# EAGLE library part XF2*-40? (library Custom_Cons)
EastRising http://www.buydisplay.com/default/40-pin-0-5mm-pitch-top-contact-zif-connector-fpc-connector
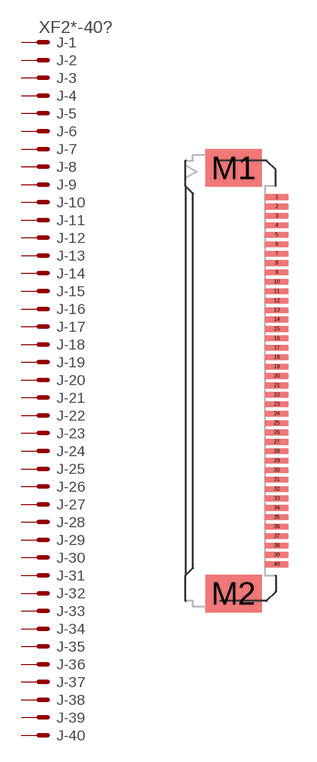
[diagram p0: symbol with the pads of XF2M-4015-1F; footprint XF2M-4015-1F]

Designator prefix J; gates -1=PV -2=P -3=P -4=P -5=P -6=P -7=P -8=P -9=P -10=P -11=P -12=P -13=P -14=P -15=P -16=P -17=P -18=P -19=P -20=P -21=P -22=P -23=P -24=P -25=P -26=P -27=P -28=P -29=P -30=P -31=P -32=P -33=P -34=P -35=P -36=P -37=P -38=P -39=P -40=P

## XF2M-40CON40HT (BEISTELLUNG: JA; MF: EastRising; MPN: ER-CON40HT-1; OC_FARNELL: unknown; OC_NEWARK: unknown)  [XF2M-4015-1F]
1  -40:MS  pas
2  -39:MS  pas
3  -38:MS  pas
4  -37:MS  pas
5  -36:MS  pas
6  -35:MS  pas
7  -34:MS  pas
8  -33:MS  pas
9  -32:MS  pas
10  -31:MS  pas
11  -30:MS  pas
12  -29:MS  pas
13  -28:MS  pas
14  -27:MS  pas
15  -26:MS  pas
16  -25:MS  pas
17  -24:MS  pas
18  -23:MS  pas
19  -22:MS  pas
20  -21:MS  pas
21  -20:MS  pas
22  -19:MS  pas
23  -18:MS  pas
24  -17:MS  pas
25  -16:MS  pas
26  -15:MS  pas
27  -14:MS  pas
28  -13:MS  pas
29  -12:MS  pas
30  -11:MS  pas
31  -10:MS  pas
32  -9:MS  pas
33  -8:MS  pas
34  -7:MS  pas
35  -6:MS  pas
36  -5:MS  pas
37  -4:MS  pas
38  -3:MS  pas
39  -2:MS  pas
40  -1:MSV  pas
M1  -40:MS  pas
M2  -40:MS  pas

## Footprint XF2M-4015-1F (pad centres in mm)
smd 1.25 x 0.3: 1 2.54,9.75; 2 2.54,9.25; 3 2.54,8.75; 4 2.54,8.25; 5 2.54,7.75; 6 2.54,7.25; 7 2.54,6.75; 8 2.54,6.25; 9 2.54,5.75; 10 2.54,5.25; 11 2.54,4.75; 12 2.54,4.25; 13 2.54,3.75; 14 2.54,3.25; 15 2.54,2.75; 16 2.54,2.25; 17 2.54,1.75; 18 2.54,1.25; 19 2.54,0.75; 20 2.54,0.25; 21 2.54,-0.25; 22 2.54,-0.75; 23 2.54,-1.25; 24 2.54,-1.75; 25 2.54,-2.25; 26 2.54,-2.75; 27 2.54,-3.25; 28 2.54,-3.75; 29 2.54,-4.25; 30 2.54,-4.75; 31 2.54,-5.25; 32 2.54,-5.75; 33 2.54,-6.25; 34 2.54,-6.75; 35 2.54,-7.25; 36 2.54,-7.75; 37 2.54,-8.25; 38 2.54,-8.75; 39 2.54,-9.25; 40 2.54,-9.75
smd 3 x 2: M1 0.25,11.3; M2 0.25,-11.3